# Altium schematic symbol library Transistors.SchLib: 8 symbols
Pins are listed as number, name and electrical type; pins without a type are passive.

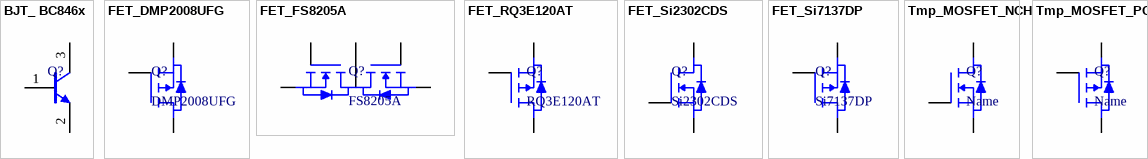
[diagram p0: symbols BJT_ BC846x to Tmp_MOSFET_PCH]

## BJT_ BC846x
designator Q?, comment BC846x  (value not drawn)
Single Bipolar Transistor, NPN, 65 V, 100 mA, 250 mW, SOT23 (TO-236AB), 3 Pins, Surface Mount; Mrf. Part: ?; LCSC Part: ?; JLCPCB Part: ?
footprint BJT_ BC846x
pins: 1 B, 2 E, 3 C

## FET_DMP2008UFG
designator Q?, comment DMP2008UFG
20V 8mΩ@4.5V,12A 1V@250uA, 1P-Ch; Mrf. Part: ?; LCSC Part: ?; JLCPCB Part: ?
footprint FET_DMP2008UFG
pins: D, G, S

## FET_FS8205A
designator Q?, comment FS8205A
20V 6A 25mΩ@4.5V,4A 1W 1V@250uA 2N-Ch; JLCPCB Part: ?; LSLC Part: ?; Mrf. Part: ?
footprint FET_FS8205A
pins: D12, G1, G2, S1, S2

## FET_RQ3E120AT
designator Q?, comment RQ3E120AT
30V 39A 2W 8mΩ@12A,10V 2.5V@1mA 1P-Ch; ComponentLink1Description: New link; ComponentLink1URL: *; Mrf. Part: ?; LCSC Part: ?; JLCPCB Part: ?
footprint FET_RQ3E120AT
pins: D, G, S

## FET_Si2302CDS
designator Q?, comment Si2302CDS
20V 2.9A 57mΩ@4.5V,3.6A 710mW 850mV@250uA 1N-Ch; Mrf. Part: ?; LCSC Part: ?; JLCPCB Part: ?
footprint FET_Si2302CDS
pins: D, G, S

## FET_Si7137DP
designator Q?, comment Si7137DP
20V 60A 1.95mΩ@25A,10V 1.4V@250uA 1P-Ch; Mrf. part: ?; LCSC Part: ?; JLCPCB Part: ?
footprint FET_Si7137DP
pins: D, G, S

## Tmp_MOSFET_NCH
designator Q?, comment Name
Where is the discription?; JLCPCB Part: ?; LSLC Part: ?; Mrf. Part: ?
pins: D, G, S

## Tmp_MOSFET_PCH
designator Q?, comment Name
Where is the discription?; JLCPCB Part: ?; LSLC Part: ?; Mrf. Part: ?
pins: D, G, S